# EAGLE library part NRPN04 (library con-sullins-nrpn)
HEADER
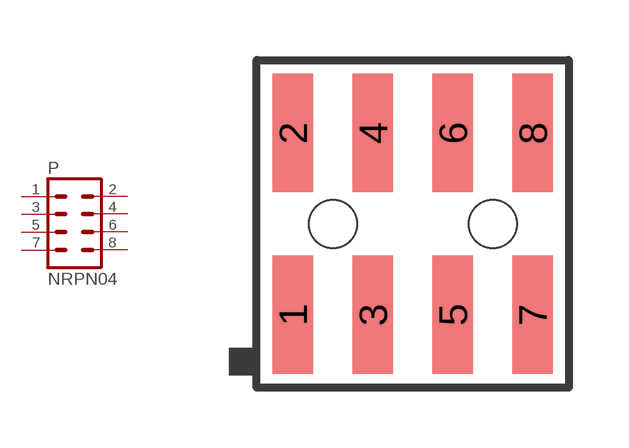
[diagram p1: symbol with the pads of NRPN04; footprint NRPN04]

Designator prefix P

## NRPN04  [NRPN04]
1  1  pas
2  2  pas
3  3  pas
4  4  pas
5  5  pas
6  6  pas
7  7  pas
8  8  pas

## Footprint NRPN04 (pad centres in mm)
HEADER
smd 1.02 x 2.95: 1 -3,-2.275; 2 -3,2.275; 3 -1,-2.275; 4 -1,2.275; 5 1,-2.275; 6 1,2.275; 7 3,-2.275; 8 3,2.275
hole 1.2 at -2,0
hole 1.2 at 2,0